# Altium footprint library CAPC450X640X110L60N.PcbLib: 1 footprints
Each footprint in its own frame and in the unit in brackets; x right, y up, seen from the top. Pads: shape width x height; smd on the part's side, far side on the other; paste and mask are expansions set on the pad; w line width, h text height; cw(c..) or ccw(c..) is an arc to the next point about the centre after c.
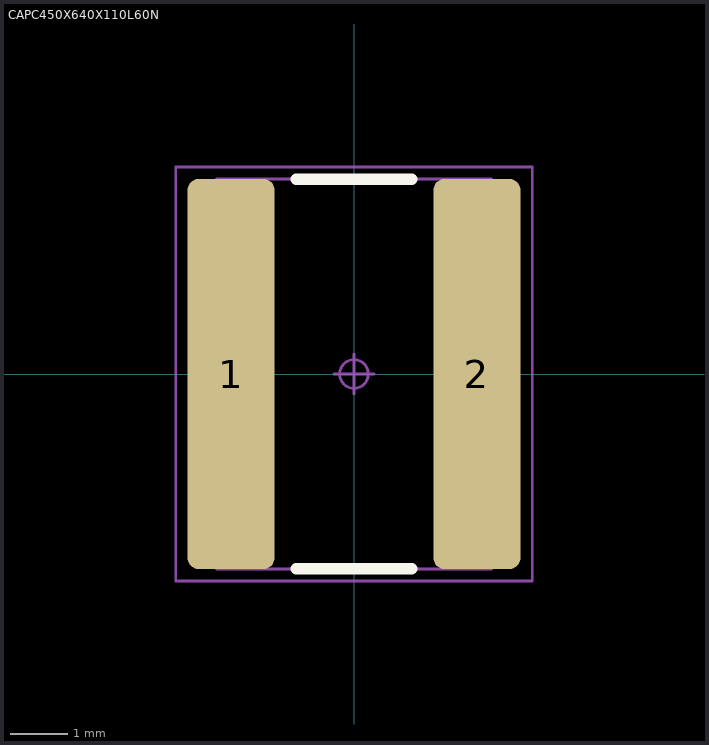
[diagram p0: the footprint, top view; thin cyan lines are the x and y axes]

## CAPC450X640X110L60N [mm] "Capacitor, Chip; 4.50 mm L X 6.40 mm W X 1.10 mm H body"
height 1.1
pads (2):
  rrect26% 1.52x6.81 smd mask+0.05: 1(-2.145,0) 2(2.145,0)
Top Overlay:
  lines w0.2: -1.01,-3.4 1.01,-3.4 ; -1.01,3.4 1.01,3.4
Mechanical 11:
  lines w0.05: -2.4,-3.4 2.4,-3.4 2.4,3.4 -2.4,3.4 -2.4,-3.4
Mechanical 15:
  circle w0.05: c0,0 r0.25
  lines w0.05: -0.35,0 0.35,0 ; 0,-0.35 0,0.35 ; -3.11,-3.61 3.11,-3.61 3.11,3.61 -3.11,3.61 -3.11,-3.61
3D body "CAPC450X640X110L60.STEP": height 1.1, standoff 0, extent -2.4,-3.4 2.4,3.4